# Altium footprint library TH Capacitors.PcbLib: 22 footprints (part 1 of 2)
Each footprint in its own frame and in the unit in brackets; x right, y up, seen from the top. Pads: shape width x height; smd on the part's side, far side on the other; paste and mask are expansions set on the pad; w line width, h text height; cw(c..) or ccw(c..) is an arc to the next point about the centre after c.
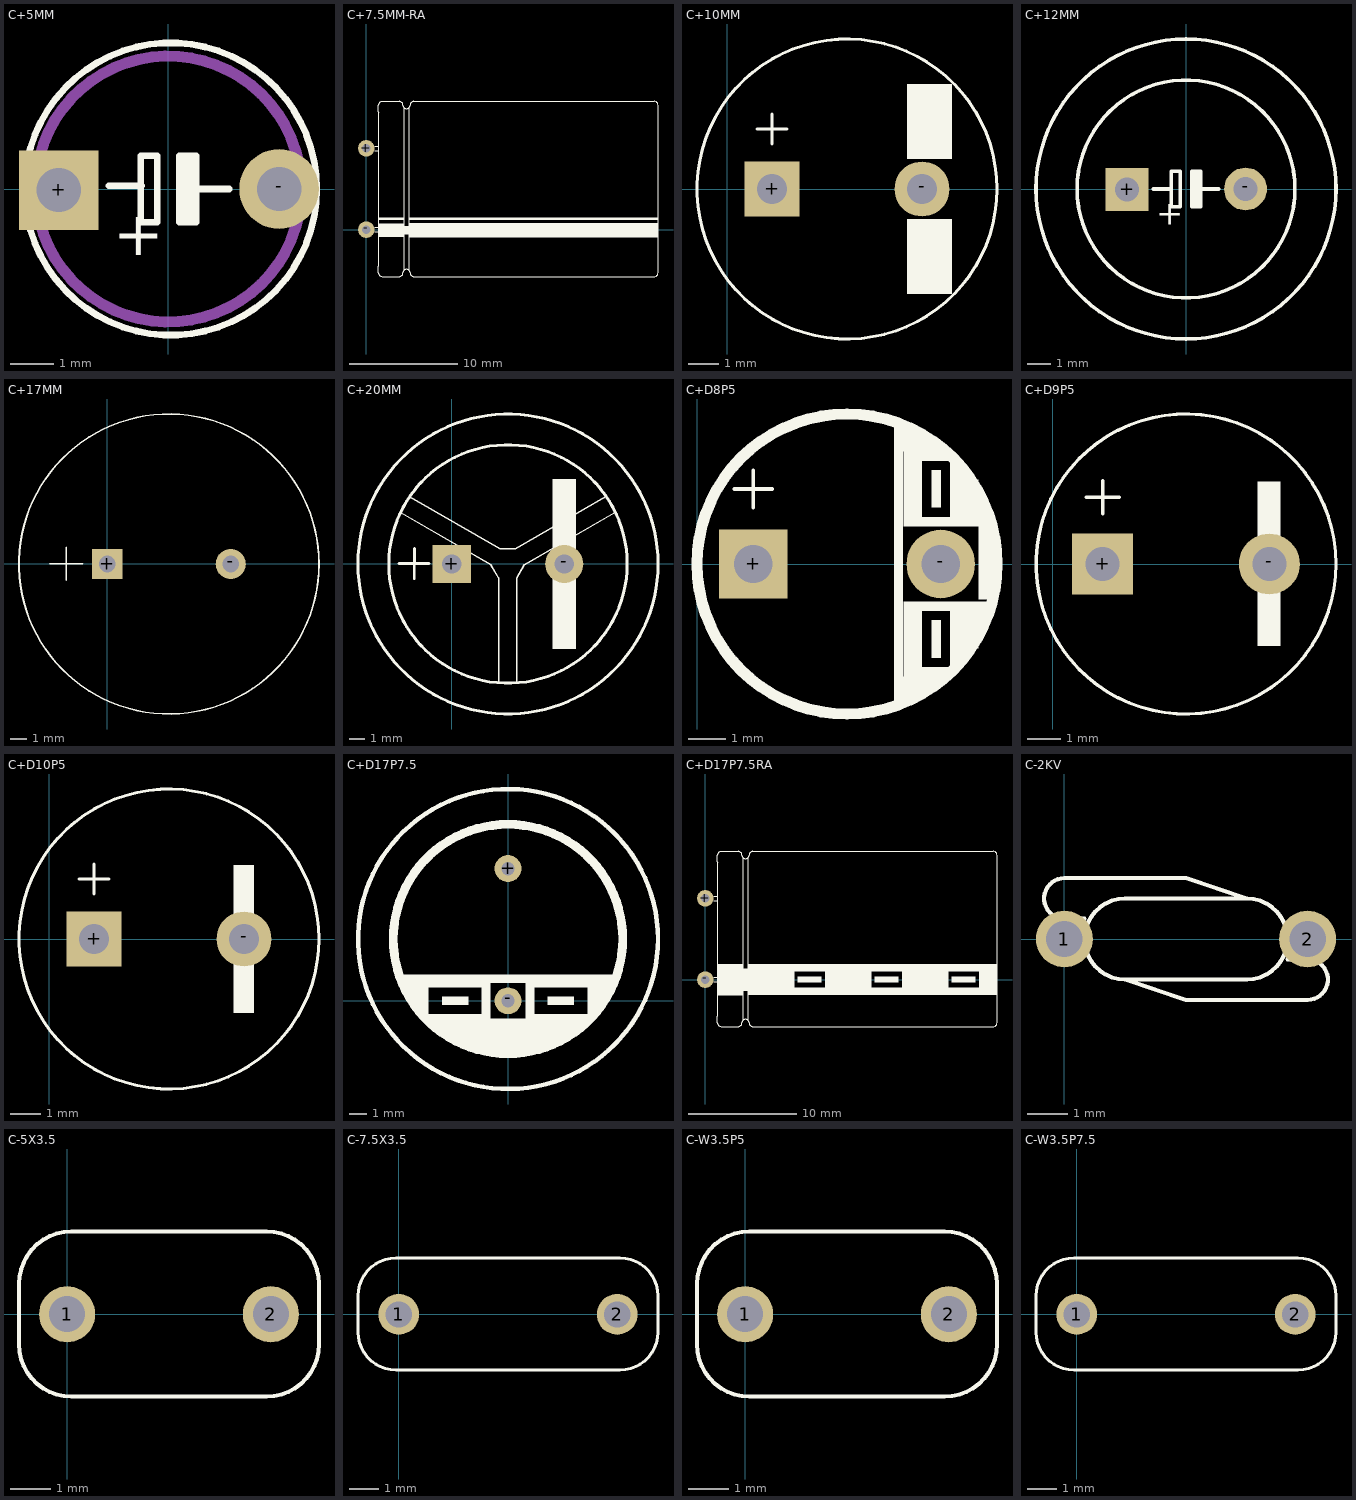
[diagram p0: the footprints below, top view; thin cyan lines are the x and y axes]

## C+5MM [mil]
pads (2):
  rect 72x72 hole 40: +(-99,-1)
  round 72 hole 40: -(100,0)
Top Overlay:
  circle w6: c2,0 r132
  rectangle: 9.99,-30 24.99,30
  lines w6: 25,0 55,0 25,0 ; 25,0 25,-30 10,-30 10,0 10,30 25,30 25,0 ; -54,3 -24,3 -54,3 ; -25,-30 -10,-30 -10,0 -10,30 -25,30 -25,0 -25,-30
  text "+" at -50,-60 h40
Mechanical 1:
  circle w10: c0,0 r120
3D body: height 480, standoff 100, extent 70,-27 121,1
3D body: height 480, standoff 100, extent 70,1 121,29
3D body: height 195, standoff 75, extent -54,-15 -24.12,14.94
3D body: height 90, standoff 60, extent -53.92,-15 -24.08,14.87
3D body: height 90, standoff 60, extent 25.08,-15 54.92,14.87
3D body: height 195, standoff 75, extent 25,-15 54.88,14.94
3D body: height 480, standoff 100, extent -83,-80 76.37,79.68
3D body: height 150, standoff 100, extent -118.53,-120 120.53,119.53
3D body: height 20, standoff -100, extent 84,-15 113.88,14.94
3D body: height 85.52, standoff 11.36, extent 31.92,-15 106.08,14.94
3D body: height 35, standoff 5, extent 84.08,-15 113.92,14.87
3D body: height 35, standoff 5, extent -111.92,-14.87 -82.08,15
3D body: height 85.52, standoff 11.36, extent -105,-14.97 -30.84,14.97
3D body: height 20, standoff -100, extent -111.88,-14.94 -82,15
3D body: height 200, standoff 150, extent -114,-115.77 115.09,113.77
3D body: height 479, standoff 200, extent -119,-120 120.05,119.53

## C+7.5MM-RA [mil]
pads (2):
  round 60 hole 30: +(0,295) -(0,0)
Top Overlay:
  rectangle: 155,-29 1058,25
  rectangle: 45,-26 137,23
  rectangle: 137,-18 155,14
  rectangle: 45,35 137,44
  rectangle: 153,35 1058,44
  lines w4: 30,-8 45,-8 45,-131 44,-132 44,-156 ccw(c57,-156) 57,-169 ; 30,8 45,8 ; 30,287 45,287 45,104 ; 30,303 45,303 45,426 44,427 44,451 cw(c57,451) 57,464 ; 45,-32 45,8 ; 45,191 45,8 ; 45,265 45,337 ; 58,-170 120,-170 ccw(c120,-157) 133,-157 cw(c146,-157) 146,-144 cw(c146,-157) 159,-157 ccw(c172,-157) 172,-170 1045,-170 ccw(c1045,-157) 1058,-157 1058,181 ; 58,465 120,465 cw(c120,452) 133,452 ccw(c146,452) 146,439 ccw(c146,452) 159,452 cw(c172,452) 172,465 1045,465 cw(c1045,452) 1058,452 1058,114 ; 137,-147 137,191 ; 137,104 137,442 ; 155,-147 155,191 ; 155,104 155,442

## C+10MM [mil]
pads (2):
  rect 72x72 hole 40: +(59.06,0)
  round 72 hole 40: -(255.91,0)
Top Overlay:
  circle w4: c157.48,0 r196.85
  rectangle: 236.22,39.37 295.28,137.8
  rectangle: 236.22,-137.8 295.28,-39.37
  lines w4: 39.37,78.74 78.74,78.74 ; 59.06,59.06 59.06,98.43

## C+12MM [mil]
pads (2):
  rect 72x72 hole 40: +(-99,-1)
  round 72 hole 40: -(100,0)
Top Overlay:
  circle w6: c0,0 r252.01
  circle w6: c0,0 r183
  rectangle: 10,-30 25,30
  lines w4: 11.7,8.26 13.43,-7.26
  lines w6: -25,0 -55,0 -25,0 ; -25,0 -25,30 -10,30 -10,0 -10,-30 -25,-30 -25,0 ; 25,0 25,30 10,30 10,0 10,-30 25,-30 25,0 ; 25,0 55,0 25,0
  text "+" at -50,-60 h40
3D body: height 673.23, standoff 10, extent 137.71,-43 243,-2
3D body: height 672.44, standoff 200, extent -236.42,-237.68 242,241.68
3D body: height 236.22, standoff 118.11, extent -208.52,-210 215,214.36
3D body: height 128.11, standoff 10, extent -238,-238.37 240.42,241
3D body: height 677.17, standoff 200.79, extent -157.72,-160.17 156,154.17
3D body: height 673.23, standoff 10, extent 139.14,-2 243,37

## C+17MM [mil]
pads (2):
  rect 72x72 hole 40: +(0.26,-0.32)
  round 72 hole 40: -(295.53,-0.32)
Top Overlay:
  circle w4: c147.89,-0.32 r358.66
  lines w4: -137.54,0.67 -58.8,0.67 ; -98.17,-38.7 -98.17,40.04

## C+20MM [mil]
pads (2):
  rect 100x100 hole 50: +(0.26,-0.32)
  round 100 hole 50: -(295.53,-0.31)
Top Overlay:
  circle w7.87: c147.89,-0.31 r312.93
  circle w7.87: c147.89,-0.31 r393.7
  rectangle: 265,36.37 326,222.37
  rectangle: 265,-223 326,-37
  lines w4: -134.33,134.72 102.96,-2.28 123,-37 123,-311 ; -110.33,176.28 126.96,39.28 167.04,39.28 404.33,176.28 ; 171,-311 171,-37 191.04,-2.28 428.33,134.72
  lines w7.87: -137.54,0.67 -58.8,0.67 ; -98.17,-38.7 -98.17,40.04

## C+D8P5 [mil]
pads (2):
  rect 72x72 hole 40: +(59.06,0)
  round 72 hole 40: -(255.91,0)
Top Overlay:
  circle w11.81: c157.48,0 r157.48
  rectangle: 236.22,-118.11 265.75,-108.27
  rectangle: 288.39,-65.94 305.12,-49.21
  rectangle: 216.54,-141.73 236.22,-118.11
  rectangle: 236.22,-129.92 255.91,-118.11
  rectangle: 285.43,-88.58 295.28,-49.21
  rectangle: 275.59,-98.43 285.43,-49.21
  rectangle: 265.75,-108.27 275.59,-49.21
  rectangle: 216.54,-118.11 236.22,-49.21
  rectangle: 206.69,-147.64 216.54,-49.21
  rectangle: 216.54,-49.21 305.12,-39.37
  rectangle: 226.38,-49.21 305.12,-49.21
  rectangle: 246.06,-98.43 255.91,-59.06
  rectangle: 295.28,-37.4 311.02,49.21
  rectangle: 236.22,108.27 265.75,118.11
  rectangle: 288.39,49.21 305.12,65.94
  rectangle: 216.54,118.11 236.22,141.73
  rectangle: 236.22,118.11 255.91,129.92
  rectangle: 285.43,49.21 295.28,88.58
  rectangle: 275.59,49.21 285.43,98.43
  rectangle: 265.75,49.21 275.59,108.27
  rectangle: 216.54,49.21 236.22,118.11
  rectangle: 206.69,49.21 216.54,147.64
  rectangle: 206.69,-147.64 216.54,49.21
  rectangle: 216.54,39.37 305.12,49.21
  rectangle: 226.38,49.21 305.12,49.21
  rectangle: 246.06,59.06 255.91,98.43
  lines w4: 39.37,78.74 78.74,78.74 ; 59.06,59.06 59.06,98.43

## C+D9P5 [mil]
pads (2):
  rect 72x72 hole 40: +(59.06,0)
  round 72 hole 40: -(255.91,0)
Top Overlay:
  circle w4: c157.48,0 r177.17
  rectangle: 242,-97 269.06,97.43
  lines w4: 39.37,78.74 78.74,78.74 ; 59.06,59.06 59.06,98.43

## C+D10P5 [mil]
pads (2):
  rect 72x72 hole 40: +(59.06,0)
  round 72 hole 40: -(255.91,0)
Top Overlay:
  circle w4: c157.48,0 r196.85
  rectangle: 242,-97 269.06,97.43
  lines w4: 39.37,78.74 78.74,78.74 ; 59.06,59.06 59.06,98.43

## C+D17P7.5 [mil]
pads (2):
  round 60 hole 30: +(0,295) -(0,0)
Top Overlay:
  circle w19.68: c0,137.8 r255.91
  circle w10: c0,137.8 r334.65
  rectangle: -177.17,-39.37 -59.06,-29.53
  rectangle: 59.05,-39.37 177.17,-29.53
  rectangle: 59.05,29.53 177.17,39.37
  rectangle: -177.17,29.53 -59.06,49.21
  rectangle: -236.22,39.37 -78.74,59.05
  rectangle: -29.53,-118.11 39.37,-98.43
  rectangle: -78.74,-108.27 78.74,-98.43
  rectangle: -118.11,-98.43 118.11,-78.74
  rectangle: -147.64,-78.74 147.64,-59.05
  region: 216.54,9.84 196.85,9.84 196.85,-9.84 216.54,-9.84
  region: 226.38,49.21 216.54,49.21 216.54,9.84 226.38,9.84
  region: 216.54,49.21 206.69,49.21 206.69,9.84 216.54,9.84
  region: 206.69,49.21 196.85,49.21 196.85,-9.84 206.69,-9.84
  region: 196.85,49.21 187.01,49.21 187.01,-39.37 196.85,-39.37
  region: 187.01,49.21 177.17,49.21 177.17,-39.37 187.01,-39.37
  rectangle: 88.58,-9.84 147.64,9.84
  rectangle: 39.37,-39.37 59.06,39.37
  rectangle: -59.05,-49.21 -39.37,39.37
  rectangle: -216.54,-9.84 -196.85,9.84
  rectangle: -226.38,9.84 -216.54,49.21
  rectangle: -216.54,9.84 -206.69,49.21
  rectangle: -206.69,-9.84 -196.85,49.21
  rectangle: -196.85,-39.37 -187.01,49.21
  rectangle: -187.01,-39.37 -177.17,49.21
  rectangle: -78.74,39.37 236.22,59.06
  rectangle: -177.17,-59.05 177.17,-39.37
  rectangle: -147.64,-9.84 -88.58,9.84

## C+D17P7.5RA [mil]
pads (2):
  round 60 hole 30: +(0,295) -(0,0)
Top Overlay:
  rectangle: 45,-57 137,0
  rectangle: 155,-56 324,0
  rectangle: 324,-56 434,-29
  rectangle: 434,-56 603,0
  rectangle: 603,-56 713,-29
  rectangle: 713,-56 882,0
  rectangle: 882,-56 992,-29
  rectangle: 992,-56 1058,0
  rectangle: 335,-11 422,0
  rectangle: 614,-11 701,0
  rectangle: 893,-11 980,0
  rectangle: 137,-41 155,0
  rectangle: 45,0 137,57
  rectangle: 155,0 324,56
  rectangle: 324,29 434,56
  rectangle: 434,0 603,56
  rectangle: 603,29 713,56
  rectangle: 713,0 882,56
  rectangle: 882,29 992,56
  rectangle: 992,0 1058,56
  rectangle: 335,0 422,11
  rectangle: 614,0 701,11
  rectangle: 893,0 980,11
  rectangle: 137,0 155,41
  lines w4: 30,-8 45,-8 ; 30,8 45,8 ; 30,287 45,287 45,104 ; 30,303 45,303 45,426 44,427 44,451 cw(c57,451) 57,464 ; 45,-32 45,8 ; 45,32 45,-8 ; 45,191 45,8 ; 45,265 45,337 ; 57,-169 cw(c57,-156) 44,-156 44,-132 45,-131 45,-8 ; 58,-170 120,-170 ccw(c120,-157) 133,-157 cw(c146,-157) 146,-144 cw(c146,-157) 159,-157 ccw(c172,-157) 172,-170 1045,-170 ccw(c1045,-157) 1058,-157 1058,181 ; 58,465 120,465 cw(c120,452) 133,452 ccw(c146,452) 146,439 ccw(c146,452) 159,452 cw(c172,452) 172,465 1045,465 cw(c1045,452) 1058,452 1058,114 ; 137,-147 137,191 ; 137,104 137,442 ; 155,-147 155,191 ; 155,104 155,442

## C-2KV [mm]
pads (2):
  round 1.4 hole 0.9: 1(0,0) 2(6,0)
Top Overlay:
  lines w0.102: 0.5,0.5 0,0.5 cw(c0,1) 0,1.5 3,1.5 4.5,1 ; 5.5,-0.5 6,-0.5 cw(c6,-1) 6,-1.5 3,-1.5 1.5,-1 ; 1.5,-1 cw(c1.5,0) 1.5,1 4.5,1 ; 1.5,-1 4.5,-1 ccw(c4.5,0) 4.5,1

## C-5X3.5 [mm]
pads (2):
  round 1.4 hole 0.9: 1(0,0) 2(5.08,0)
Top Overlay:
  lines w0.102: -1.202,0.759 -1.202,-0.752 ccw(c0.098,-0.752) 0.102,-2.052 4.978,-2.052 ccw(c4.982,-0.752) 6.282,-0.752 6.282,0.759 ; -1.198,0.762 cw(c0.102,0.762) 0.105,2.062 4.975,2.062 cw(c4.978,0.762) 6.278,0.762

## C-7.5X3.5 [mm]
pads (2):
  round 1.4 hole 0.9: 1(0,0) 2(7.5,0)
Top Overlay:
  lines w0.102: -1.4,-0.61 ccw(c-0.1,-0.61) -0.097,-1.91 7.596,-1.91 ccw(c7.6,-0.61) 8.9,-0.61 8.9,0.635 ccw(c7.6,0.635) 7.596,1.935 -0.097,1.935 ccw(c-0.1,0.635) -1.4,0.635 -1.4,-0.61

## C-W3.5P5 [mm]
pads (2):
  round 1.4 hole 0.9: 1(0,0) 2(5.08,0)
Top Overlay:
  lines w0.102: -1.202,0.759 -1.202,-0.752 ccw(c0.098,-0.752) 0.102,-2.052 4.978,-2.052 ccw(c4.982,-0.752) 6.282,-0.752 6.282,0.759 ; -1.198,0.762 cw(c0.102,0.762) 0.105,2.062 4.975,2.062 cw(c4.978,0.762) 6.278,0.762

## C-W3.5P7.5 [mm]
pads (2):
  round 1.4 hole 0.9: 1(0,0) 2(7.5,0)
Top Overlay:
  lines w0.102: -1.4,-0.61 ccw(c-0.1,-0.61) -0.097,-1.91 7.596,-1.91 ccw(c7.6,-0.61) 8.9,-0.61 8.9,0.635 ccw(c7.6,0.635) 7.596,1.935 -0.097,1.935 ccw(c-0.1,0.635) -1.4,0.635 -1.4,-0.61